# EAGLE library part HEADER_9P (library Bauteile)
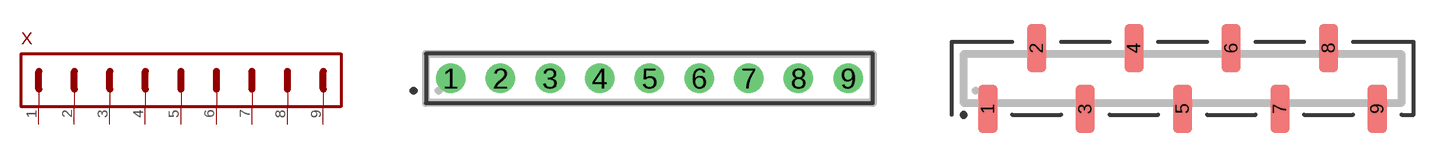
[diagram p48: symbol with the pads of HEADER_9P_1ROW_RM2.54MM_THT; footprints HEADER_9P_1ROW_RM2.54MM_THT, HEADER_9P_1ROW_RM2.54MM_SMD]

Designator prefix X

## HEADER_9P(RM2.54MM_1ROW_THT)  [HEADER_9P_1ROW_RM2.54MM_THT]
1  PIN1
2  PIN2
3  PIN3
4  PIN4
5  PIN5
6  PIN6
7  PIN7
8  PIN8
9  PIN9

## HEADER_9P(RM2.54MM_1ROW_SMD)  [HEADER_9P_1ROW_RM2.54MM_SMD]
Pads as for HEADER_9P_1ROW_RM2.54MM_THT

## HEADER_9P(JST-XH)  [JST-XH_9]
Pads as for HEADER_9P_1ROW_RM2.54MM_THT

## Footprint HEADER_9P_1ROW_RM2.54MM_THT (pad centres in mm)
drill 1: 1 -10.16,0; 2 -7.62,0; 3 -5.08,0; 4 -2.54,0; 5 0,0; 6 2.54,0; 7 5.08,0; 8 7.62,0; 9 10.16,0

## Footprint HEADER_9P_1ROW_RM2.54MM_SMD (pad centres in mm)
smd 1 x 2.54: 1 -10.16,-1.587; 2 -7.62,1.587; 3 -5.08,-1.587; 4 -2.54,1.587; 5 0,-1.587; 6 2.54,1.587; 7 5.08,-1.587; 8 7.62,1.587; 9 10.16,-1.587

## Footprint JST-XH_9 (pad centres in mm)
drill 1: 1 -10.16,0; 2 -7.62,0; 3 -5.08,0; 4 -2.54,0; 5 0,0; 6 2.54,0; 7 5.08,0; 8 7.62,0; 9 10.16,0